# EAGLE library part ATTINY24_44_84_ATTINY24/44/84 (library AdapterDIP8M16)
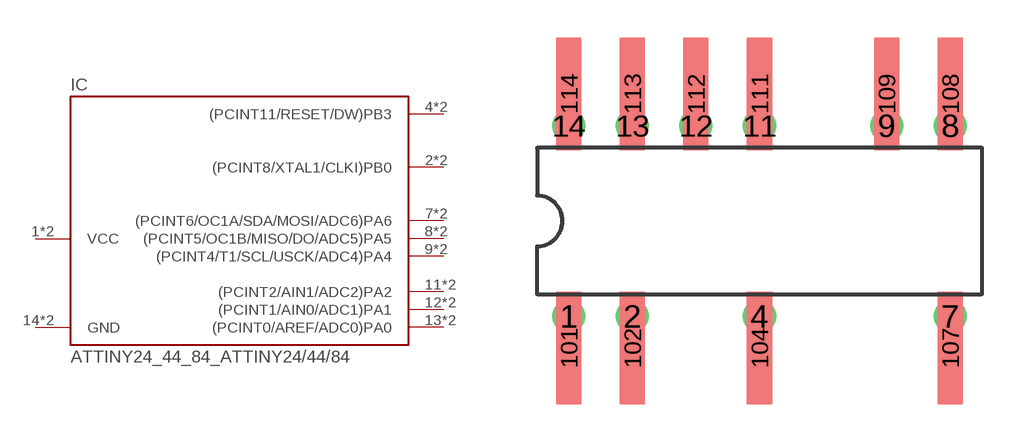
[diagram p6: symbol with the pads of ATTINY24_44_84_DIL14; footprint ATTINY24_44_84_DIL14]

Designator prefix IC

## ATTINY24_44_84_ATTINY24/44/84-PU  [ATTINY24_44_84_DIL14]
1  VCC  pwr
2  (PCINT8/XTAL1/CLKI)PB0
4  (PCINT11/RESET/DW)PB3
7  (PCINT6/OC1A/SDA/MOSI/ADC6)PA6
8  (PCINT5/OC1B/MISO/DO/ADC5)PA5
9  (PCINT4/T1/SCL/USCK/ADC4)PA4
11  (PCINT2/AIN1/ADC2)PA2
12  (PCINT1/AIN0/ADC1)PA1
13  (PCINT0/AREF/ADC0)PA0
14  GND  pwr
101  VCC  pwr
102  (PCINT8/XTAL1/CLKI)PB0
104  (PCINT11/RESET/DW)PB3
107  (PCINT6/OC1A/SDA/MOSI/ADC6)PA6
108  (PCINT5/OC1B/MISO/DO/ADC5)PA5
109  (PCINT4/T1/SCL/USCK/ADC4)PA4
111  (PCINT2/AIN1/ADC2)PA2
112  (PCINT1/AIN0/ADC1)PA1
113  (PCINT0/AREF/ADC0)PA0
114  GND  pwr

## Footprint ATTINY24_44_84_DIL14 (pad centres in mm)
Dual In Line Package
drill 0.813: 1 -7.62,-3.81; 2 -5.08,-3.81; 4 0,-3.81; 7 7.62,-3.81; 8 7.62,3.81; 9 5.08,3.81; 11 0,3.81; 12 -2.54,3.81; 13 -5.08,3.81; 14 -7.62,3.81
smd 1 x 4.5: 101 -7.62,-5.08; 102 -5.08,-5.08; 104 0,-5.08; 107 7.62,-5.08; 108 7.62,5.08; 109 5.08,5.08; 111 0,5.08; 112 -2.54,5.08; 113 -5.08,5.08; 114 -7.62,5.08